# EAGLE library part DIP-10X (library #PaJa_prepinace)
DIP Prepinac - 10x
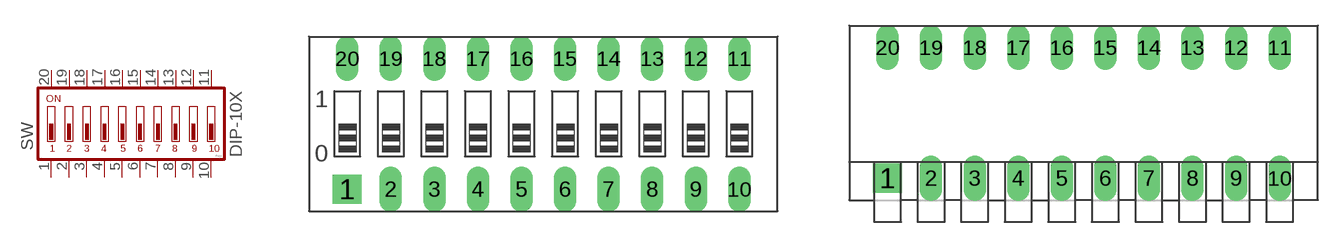
[diagram p7: symbol with the pads of DIP-10X; footprints DIP-10X, DP-10]

Designator prefix SW

## DIP-10X_DIP  [DIP-10X]
1  1  pas
2  2  pas
3  3  pas
4  4  pas
5  5  pas
6  6  pas
7  7  pas
8  8  pas
9  9  pas
10  10  pas
11  11  pas
12  12  pas
13  13  pas
14  14  pas
15  15  pas
16  16  pas
17  17  pas
18  18  pas
19  19  pas
20  20  pas

## DIP-10X_DIP_PIANO  [DP-10]
Pads as for DIP-10X

## Footprint DIP-10X (pad centres in mm)
DIP prepinac - 10x
drill 0.813 pad 1.676 square: 1 -10.16,-3.81
drill 0.813 pad 1.27 long: 2 -7.62,-3.81; 3 -5.08,-3.81; 4 -2.54,-3.81; 5 0,-3.81; 6 2.54,-3.81; 7 5.08,-3.81; 8 7.62,-3.81; 9 10.16,-3.81; 10 12.7,-3.81; 11 12.7,3.81; 12 10.16,3.81; 13 7.62,3.81; 14 5.08,3.81; 15 2.54,3.81; 16 0,3.81; 17 -2.54,3.81; 18 -5.08,3.81; 19 -7.62,3.81; 20 -10.16,3.81

## Footprint DP-10 (pad centres in mm)
DIP prepinac - typ piano - 10x
drill 0.813 pad 1.676 square: 1 -11.43,-3.81
drill 0.813 pad 1.27 long: 2 -8.89,-3.81; 3 -6.35,-3.81; 4 -3.81,-3.81; 5 -1.27,-3.81; 6 1.27,-3.81; 7 3.81,-3.81; 8 6.35,-3.81; 9 8.89,-3.81; 10 11.43,-3.81; 11 11.43,3.81; 12 8.89,3.81; 13 6.35,3.81; 14 3.81,3.81; 15 1.27,3.81; 16 -1.27,3.81; 17 -3.81,3.81; 18 -6.35,3.81; 19 -8.89,3.81; 20 -11.43,3.81